# Altium schematic symbol library RS485.SchLib: 1 symbol
Pins are listed as number, name and electrical type; pins without a type are passive.

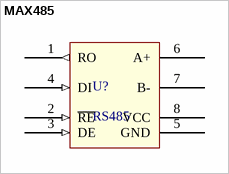
[diagram p0: symbol MAX485]

## MAX485
designator U?, comment RS485
485通讯
footprint MAX485 (485通信)
pins: 1 RO (out), 2 ~{RE} (in), 3 DE (in), 4 DI (in), 5 GND, 6 A+, 7 B-, 8 VCC